# EAGLE library part SN7447-AN_BCD-7SEGMENT (library LW_DUB)
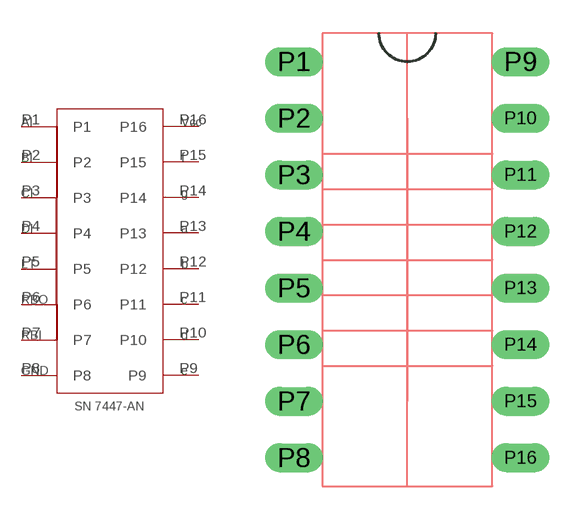
[diagram p6: symbol with the pads of SN7447-AN_BCD-TO-7SEGMENT; footprint SN7447-AN_BCD-TO-7SEGMENT]

Designator prefix -

## SN7447-AN_BCD-7SEGMENT  [SN7447-AN_BCD-TO-7SEGMENT]
P1  P1
P2  P2
P3  P3
P4  P4
P5  P5
P6  P6
P7  P7
P8  P8
P9  P9
P10  P10
P11  P11
P12  P12
P13  P13
P14  P14
P15  P15
P16  P16

## Footprint SN7447-AN_BCD-TO-7SEGMENT (pad centres in mm)
drill 0.8 long: P1 -5.08,8.89; P2 -5.08,6.35; P3 -5.08,3.81; P4 -5.08,1.27; P5 -5.08,-1.27; P6 -5.08,-3.81; P7 -5.08,-6.35; P8 -5.08,-8.89; P9 5.08,8.89; P10 5.08,6.35; P11 5.08,3.81; P12 5.08,1.27; P13 5.08,-1.27; P14 5.08,-3.81; P15 5.08,-6.35; P16 5.08,-8.89